# Altium footprint library LabLib.PcbLib: 145 footprints (part 6 of 10)
Each footprint in its own frame and in the unit in brackets; x right, y up, seen from the top. Pads: shape width x height; smd on the part's side, far side on the other; paste and mask are expansions set on the pad; w line width, h text height; cw(c..) or ccw(c..) is an arc to the next point about the centre after c.
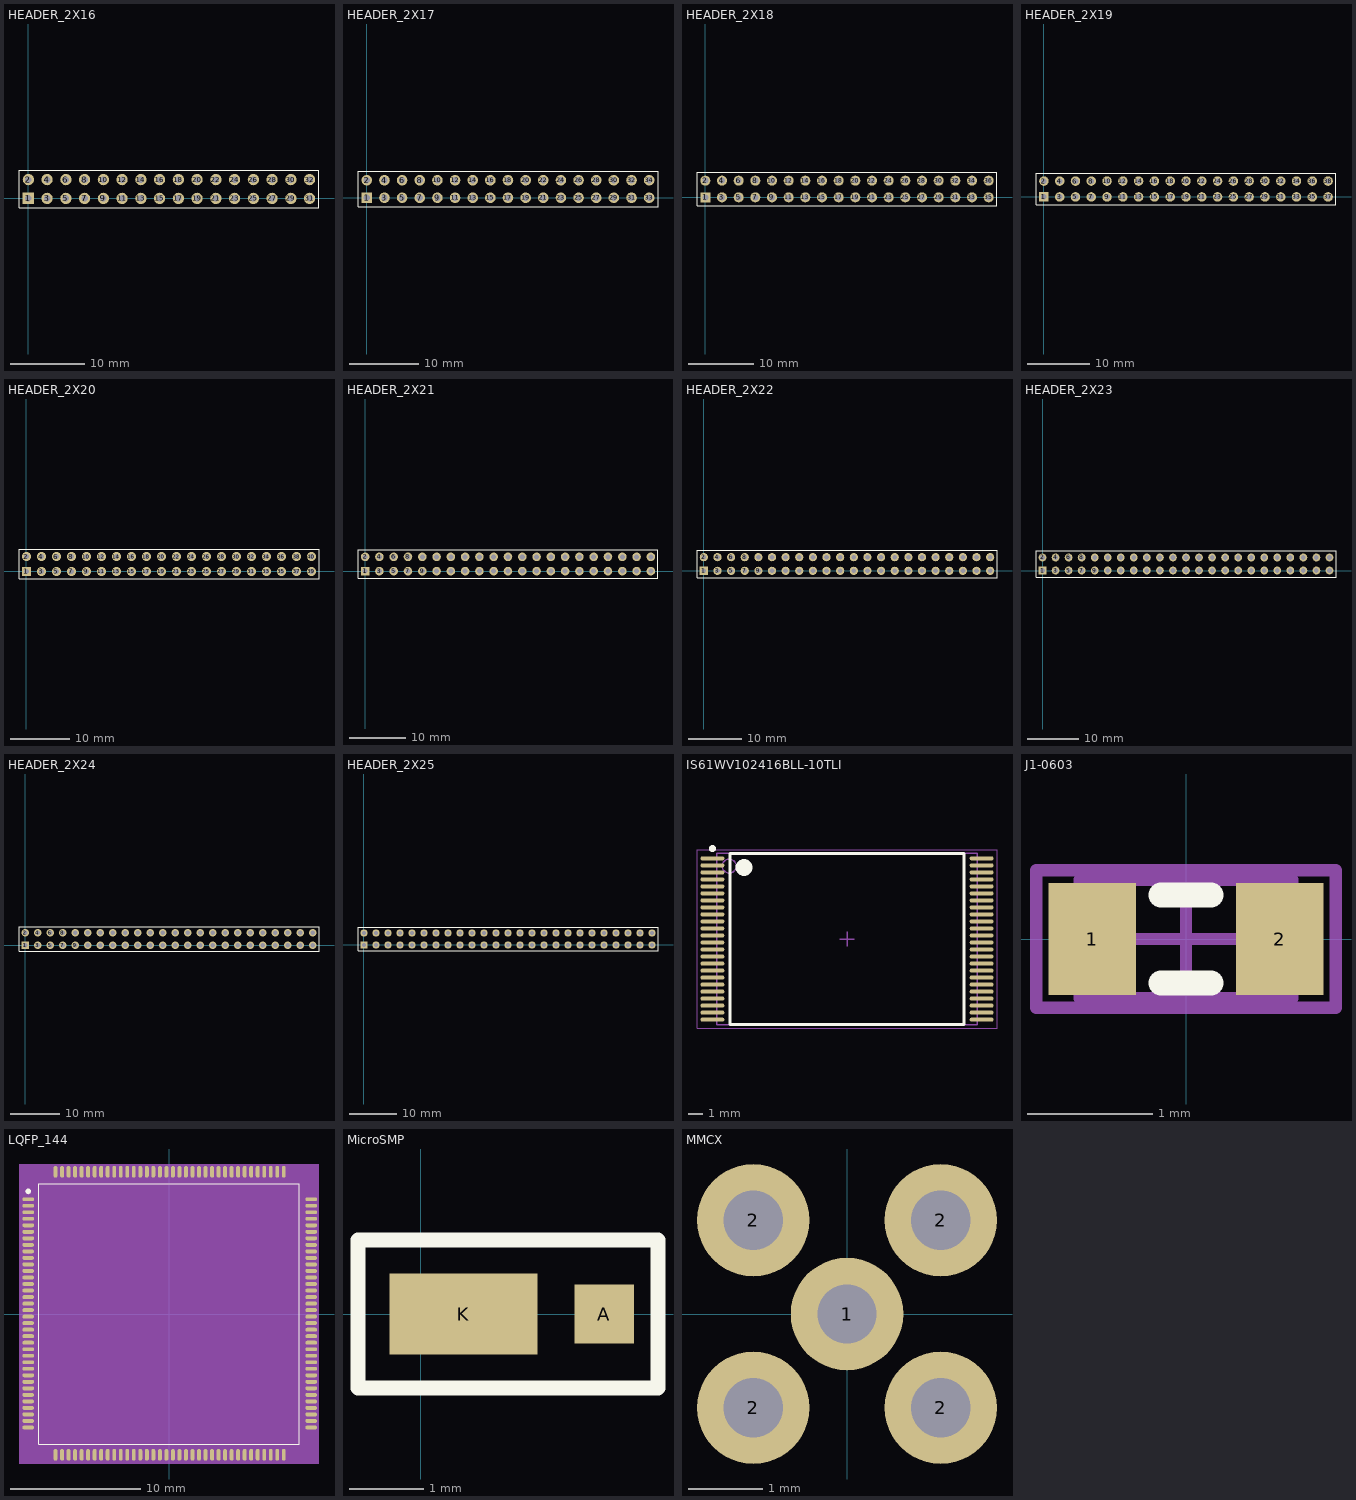
[diagram p5: the footprints below, top view; thin cyan lines are the x and y axes]

## HEADER_2X16 [mil]
pads (32):
  rect 60x60 hole 35.43: 1(0,0)
  round 60 hole 35.43: 2(0,100) 3(100,0) 4(100,100) 5(200,0) 6(200,100) 7(300,0) 8(300,100) 9(400,0) 10(400,100) 11(500,0) 12(500,100) 13(600,0) 14(600,100) 15(700,0) 16(700,100) 17(800,0) 18(800,100) 19(900,0) 20(900,100) 21(1000,0) 22(1000,100) 23(1100,0) 24(1100,100) 25(1200,0) 26(1200,100) 27(1300,0) 28(1300,100) 29(1400,0) 30(1400,100) 31(1500,0) 32(1500,100)
Top Overlay:
  lines w3.97: -50,-50 -50,150 1550.1,150 1550.1,-50 -50,-50

## HEADER_2X17 [mil]
pads (34):
  rect 60x60 hole 35.43: 1(0,0)
  round 60 hole 35.43: 2(0,100) 3(100,0) 4(100,100) 5(200,0) 6(200,100) 7(300,0) 8(300,100) 9(400,0) 10(400,100) 11(500,0) 12(500,100) 13(600,0) 14(600,100) 15(700,0) 16(700,100) 17(800,0) 18(800,100) 19(900,0) 20(900,100) 21(1000,0) 22(1000,100) 23(1100,0) 24(1100,100) 25(1200,0) 26(1200,100) 27(1300,0) 28(1300,100) 29(1400,0) 30(1400,100) 31(1500,0) 32(1500,100) 33(1600,0) 34(1600,100)
Top Overlay:
  lines w3.97: -50,-50 -50,150 1650.1,150 1650.1,-50 -50,-50

## HEADER_2X18 [mil]
pads (36):
  rect 60x60 hole 35.43: 1(0,0)
  round 60 hole 35.43: 2(0,100) 3(100,0) 4(100,100) 5(200,0) 6(200,100) 7(300,0) 8(300,100) 9(400,0) 10(400,100) 11(500,0) 12(500,100) 13(600,0) 14(600,100) 15(700,0) 16(700,100) 17(800,0) 18(800,100) 19(900,0) 20(900,100) 21(1000,0) 22(1000,100) 23(1100,0) 24(1100,100) 25(1200,0) 26(1200,100) 27(1300,0) 28(1300,100) 29(1400,0) 30(1400,100) 31(1500,0) 32(1500,100) 33(1600,0) 34(1600,100) 35(1700,0) 36(1700,100)
Top Overlay:
  lines w3.97: -50,-50 1750.1,-50 1750.1,150 -50,150 -50,-50

## HEADER_2X19 [mil]
pads (38):
  rect 60x60 hole 35.43: 1(0,0)
  round 60 hole 35.43: 2(0,100) 3(100,0) 4(100,100) 5(200,0) 6(200,100) 7(300,0) 8(300,100) 9(400,0) 10(400,100) 11(500,0) 12(500,100) 13(600,0) 14(600,100) 15(700,0) 16(700,100) 17(800,0) 18(800,100) 19(900,0) 20(900,100) 21(1000,0) 22(1000,100) 23(1100,0) 24(1100,100) 25(1200,0) 26(1200,100) 27(1300,0) 28(1300,100) 29(1400,0) 30(1400,100) 31(1500,0) 32(1500,100) 33(1600,0) 34(1600,100) 35(1700,0) 36(1700,100) 37(1800.2,0) 38(1800.2,100)
Top Overlay:
  lines w3.97: -50,-50 -50,150 1850.1,150 1850.1,-50 -50,-50

## HEADER_2X20 [mil]
pads (40):
  rect 60x60 hole 35.43: 1(0,0)
  round 60 hole 35.43: 2(0,100) 3(100,0) 4(100,100) 5(200,0) 6(200,100) 7(300,0) 8(300,100) 9(400,0) 10(400,100) 11(500,0) 12(500,100) 13(600,0) 14(600,100) 15(700,0) 16(700,100) 17(800,0) 18(800,100) 19(900,0) 20(900,100) 21(1000,0) 22(1000,100) 23(1100,0) 24(1100,100) 25(1200,0) 26(1200,100) 27(1300,0) 28(1300,100) 29(1400,0) 30(1400,100) 31(1500,0) 32(1500,100) 33(1600,0) 34(1600,100) 35(1700,0) 36(1700,100) 37(1800.2,0) 38(1800.2,100) 39(1900,0) 40(1900,100)
Top Overlay:
  lines w3.97: -50,-50 -50,150 1950.1,150 1950.1,-50 -50,-50

## HEADER_2X21 [mil]
pads (42):
  rect 60x60 hole 35.43: 1(0,0)
  round 60 hole 35.43: 2(0,100) 3(100,0) 4(100,100) 5(200,0) 6(200,100) 7(300,0) 8(300,100) 9(400,0) 10(400,100) 11(500,0) 12(500,100) 13(600,0) 14(600,100) 15(700,0) 16(700,100) 17(800,0) 18(800,100) 19(900,0) 20(900,100) 21(1000,0) 22(1000,100) 23(1100,0) 24(1100,100) 25(1200,0) 26(1200,100) 27(1300,0) 28(1300,100) 29(1400,0) 30(1400,100) 31(1500,0) 32(1500,100) 33(1600,0) 34(1600,100) 35(1700,0) 36(1700,100) 37(1800.2,0) 38(1800.2,100) 39(1900,0) 40(1900,100) 41(2000,0) 42(2000,100)
Top Overlay:
  lines w3.97: -50,-50 2050.1,-50 2050.1,150 -50,150 -50,-50

## HEADER_2X22 [mil]
pads (44):
  rect 60x60 hole 35.43: 1(0,0)
  round 60 hole 35.43: 2(0,100) 3(100,0) 4(100,100) 5(200,0) 6(200,100) 7(300,0) 8(300,100) 9(400,0) 10(400,100) 11(500,0) 12(500,100) 13(600,0) 14(600,100) 15(700,0) 16(700,100) 17(800,0) 18(800,100) 19(900,0) 20(900,100) 21(1000,0) 22(1000,100) 23(1100,0) 24(1100,100) 25(1200,0) 26(1200,100) 27(1300,0) 28(1300,100) 29(1400,0) 30(1400,100) 31(1500,0) 32(1500,100) 33(1600,0) 34(1600,100) 35(1700,0) 36(1700,100) 37(1800.2,0) 38(1800.2,100) 39(1900,0) 40(1900,100) 41(2000,0) 42(2000,100) 43(2100,0) 44(2100,100)
Top Overlay:
  lines w3.97: -50,-50 2150.1,-50 2150.1,150 -50,150 -50,-50

## HEADER_2X23 [mil]
pads (46):
  rect 60x60 hole 35.43: 1(0,0)
  round 60 hole 35.43: 2(0,100) 3(100,0) 4(100,100) 5(200,0) 6(200,100) 7(300,0) 8(300,100) 9(400,0) 10(400,100) 11(500,0) 12(500,100) 13(600,0) 14(600,100) 15(700,0) 16(700,100) 17(800,0) 18(800,100) 19(900,0) 20(900,100) 21(1000,0) 22(1000,100) 23(1100,0) 24(1100,100) 25(1200,0) 26(1200,100) 27(1300,0) 28(1300,100) 29(1400,0) 30(1400,100) 31(1500,0) 32(1500,100) 33(1600,0) 34(1600,100) 35(1700,0) 36(1700,100) 37(1800.2,0) 38(1800.2,100) 39(1900,0) 40(1900,100) 41(2000,0) 42(2000,100) 43(2100,0) 44(2100,100) 45(2200,0) 46(2200,100)
Top Overlay:
  lines w3.97: -50,-50 2250.1,-50 2250.1,150 -50,150 -50,-50

## HEADER_2X24 [mil]
pads (48):
  rect 60x60 hole 35.43: 1(0,0)
  round 60 hole 35.43: 2(0,100) 3(100,0) 4(100,100) 5(200,0) 6(200,100) 7(300,0) 8(300,100) 9(400,0) 10(400,100) 11(500,0) 12(500,100) 13(600,0) 14(600,100) 15(700,0) 16(700,100) 17(800,0) 18(800,100) 19(900,0) 20(900,100) 21(1000,0) 22(1000,100) 23(1100,0) 24(1100,100) 25(1200,0) 26(1200,100) 27(1300,0) 28(1300,100) 29(1400,0) 30(1400,100) 31(1500,0) 32(1500,100) 33(1600,0) 34(1600,100) 35(1700,0) 36(1700,100) 37(1800.2,0) 38(1800.2,100) 39(1900,0) 40(1900,100) 41(2000,0) 42(2000,100) 43(2100,0) 44(2100,100) 45(2200,0) 46(2200,100) 47(2300,0) 48(2300,100)
Top Overlay:
  lines w3.97: -50,-50 -50,150 2350.1,150 2350.1,-50 -50,-50

## HEADER_2X25 [mil]
pads (50):
  rect 60x60 hole 35.43: 1(0,0)
  round 60 hole 35.43: 2(0,100) 3(100,0) 4(100,100) 5(200,0) 6(200,100) 7(300,0) 8(300,100) 9(400,0) 10(400,100) 11(500,0) 12(500,100) 13(600,0) 14(600,100) 15(700,0) 16(700,100) 17(800,0) 18(800,100) 19(900,0) 20(900,100) 21(1000,0) 22(1000,100) 23(1100,0) 24(1100,100) 25(1200,0) 26(1200,100) 27(1300,0) 28(1300,100) 29(1400,0) 30(1400,100) 31(1500,0) 32(1500,100) 33(1600,0) 34(1600,100) 35(1700,0) 36(1700,100) 37(1800.2,0) 38(1800.2,100) 39(1900,0) 40(1900,100) 41(2000,0) 42(2000,100) 43(2100,0) 44(2100,100) 45(2200,0) 46(2200,100) 47(2300,0) 48(2300,100) 49(2400,0) 50(2400,100)
Top Overlay:
  lines w3.97: -50,-50 -50,150 2450.1,150 2450.1,-50 -50,-50

## IS61WV102416BLL-10TLI [mm] "SOP127P600-8N Medium density"
height 1.2
pads (48):
  oval 1.7x0.3 smd: 1(-57.6,34.5) 2(-57.6,34) 3(-57.6,33.5) 4(-57.6,33) 5(-57.6,32.5) 6(-57.6,32) 7(-57.6,31.5) 8(-57.6,31) 9(-57.6,30.5) 10(-57.6,30) 11(-57.6,29.5) 12(-57.6,29) 13(-57.6,28.5) 14(-57.6,28) 15(-57.6,27.5) 16(-57.6,27) 17(-57.6,26.5) 18(-57.6,26) 19(-57.6,25.5) 20(-57.6,25) 21(-57.6,24.5) 22(-57.6,24) 23(-57.6,23.5) 24(-57.6,23) 25(-38.4,23) 26(-38.4,23.5) 27(-38.4,24) 28(-38.4,24.5) 29(-38.4,25) 30(-38.4,25.5) 31(-38.4,26) 32(-38.4,26.5) 33(-38.4,27) 34(-38.4,27.5) 35(-38.4,28) 36(-38.4,28.5) 37(-38.4,29) 38(-38.4,29.5) 39(-38.4,30) 40(-38.4,30.5) 41(-38.4,31) 42(-38.4,31.5) 43(-38.4,32) 44(-38.4,32.5) 45(-38.4,33) 46(-38.4,33.5) 47(-38.4,34) 48(-38.4,34.5)
Top Overlay:
  circle w0.6: c-55.35,33.85 r0.3
  circle w0.25: c-57.6,35.2 r0.125
  lines w0.2: -56.35,22.65 -39.65,22.65 -39.65,34.85 -56.35,34.85 -56.35,22.65
Mechanical 13:
  circle w0.1: c-56.4,33.95 r0.5
  lines w0.1: -57.3,22.65 -38.7,22.65 -38.7,34.85 -57.3,34.85 -57.3,22.65
Mechanical 15:
  lines w0.05: -58.7,22.4 -37.3,22.4 -37.3,35.1 -58.7,35.1 -58.7,22.4
  lines w0.1: -48.5,28.75 -47.5,28.75 ; -48,28.25 -48,29.25
3D body: height 1.2, standoff 0.05, extent -57.3,22.65 -38.7,34.85

## J1-0603 [mm]
pads (2):
  rect 0.7x0.9 smd: 1(-0.75,0) 2(0.75,0)
Top Overlay:
  lines w0.2: -0.2,-0.35 0.2,-0.35 ; -0.2,0.35 0.2,0.35
Mechanical 13:
  lines w0.1: -0.85,-0.475 -0.85,0.475 0.85,0.475 0.85,-0.475 -0.85,-0.475
Mechanical 15:
  lines w0.1: -0.475,0 0.475,0 ; 0,-0.475 0,0.475 ; -1.2,-0.55 -1.2,0.55 1.2,0.55 1.2,-0.55 -1.2,-0.55
3D body: height 0.9, standoff 0, extent -0.85,-0.475 0.85,0.475

## LED0805green [mm]

## LQFP_144 [mm] "LQFP_144"
pads (144):
  oval 0.9x0.3 smd: 1(-10.8,8.8) 2(-10.8,8.3) 3(-10.8,7.8) 4(-10.8,7.3) 5(-10.8,6.8) 6(-10.8,6.3) 7(-10.8,5.8) 8(-10.8,5.3) 9(-10.8,4.8) 10(-10.8,4.3) 11(-10.8,3.8) 12(-10.8,3.3) 13(-10.8,2.8) 14(-10.8,2.3) 15(-10.8,1.8) 16(-10.8,1.3) 17(-10.8,0.8) 18(-10.8,0.3) 19(-10.8,-0.2) 20(-10.8,-0.7) 21(-10.8,-1.2) 22(-10.8,-1.7) 23(-10.8,-2.2) 24(-10.8,-2.7) 25(-10.8,-3.2) 26(-10.8,-3.7) 27(-10.8,-4.2) 28(-10.8,-4.7) 29(-10.8,-5.2) 30(-10.8,-5.7) 31(-10.8,-6.2) 32(-10.8,-6.7) 33(-10.8,-7.2) 34(-10.8,-7.7) 35(-10.8,-8.2) 36(-10.8,-8.7) 73(10.9,-8.7) 74(10.9,-8.2) 75(10.9,-7.7) 76(10.9,-7.2) 77(10.9,-6.7) 78(10.9,-6.2) 79(10.9,-5.7) 80(10.9,-5.2) 81(10.9,-4.7) 82(10.9,-4.2) 83(10.9,-3.7) 84(10.9,-3.2) 85(10.9,-2.7) 86(10.9,-2.2) 87(10.9,-1.7) 88(10.9,-1.2) 89(10.9,-0.7) 90(10.9,-0.2) 91(10.9,0.3) 92(10.9,0.8) 93(10.9,1.3) 94(10.9,1.8) 95(10.9,2.3) 96(10.9,2.8) 97(10.9,3.3) 98(10.9,3.8) 99(10.9,4.3) 100(10.9,4.8) 101(10.9,5.3) 102(10.9,5.8) 103(10.9,6.3) 104(10.9,6.8) 105(10.9,7.3) 106(10.9,7.8) 107(10.9,8.3) 108(10.9,8.8)
  oval 0.3x0.9 smd: 37(-8.7,-10.8) 38(-8.2,-10.8) 39(-7.7,-10.8) 40(-7.2,-10.8) 41(-6.7,-10.8) 42(-6.2,-10.8) 43(-5.7,-10.8) 44(-5.2,-10.8) 45(-4.7,-10.8) 46(-4.2,-10.8) 47(-3.7,-10.8) 48(-3.2,-10.8) 49(-2.7,-10.8) 50(-2.2,-10.8) 51(-1.7,-10.8) 52(-1.2,-10.8) 53(-0.7,-10.8) 54(-0.2,-10.8) 55(0.3,-10.8) 56(0.8,-10.8) 57(1.3,-10.8) 58(1.8,-10.8) 59(2.3,-10.8) 60(2.8,-10.8) 61(3.3,-10.8) 62(3.8,-10.8) 63(4.3,-10.8) 64(4.8,-10.8) 65(5.3,-10.8) 66(5.8,-10.8) 67(6.3,-10.8) 68(6.8,-10.8) 69(7.3,-10.8) 70(7.8,-10.8) 71(8.3,-10.8) 72(8.8,-10.8) 109(8.8,10.9) 110(8.3,10.9) 111(7.8,10.9) 112(7.3,10.9) 113(6.8,10.9) 114(6.3,10.9) 115(5.8,10.9) 116(5.3,10.9) 117(4.8,10.9) 118(4.3,10.9) 119(3.8,10.9) 120(3.3,10.9) 121(2.8,10.9) 122(2.3,10.9) 123(1.8,10.9) 124(1.3,10.9) 125(0.8,10.9) 126(0.3,10.9) 127(-0.2,10.9) 128(-0.7,10.9) 129(-1.2,10.9) 130(-1.7,10.9) 131(-2.2,10.9) 132(-2.7,10.9) 133(-3.2,10.9) 134(-3.7,10.9) 135(-4.2,10.9) 136(-4.7,10.9) 137(-5.2,10.9) 138(-5.7,10.9) 139(-6.2,10.9) 140(-6.7,10.9) 141(-7.2,10.9) 142(-7.7,10.9) 143(-8.2,10.9) 144(-8.7,10.9)
Top Overlay:
  pour cut-out: -10.596,9.4 -10.612,9.322 -10.656,9.256 -10.722,9.212 -10.8,9.196 -10.878,9.212 -10.944,9.256 -10.988,9.322 -11.004,9.4 -10.988,9.478 -10.944,9.544 -10.878,9.588 -10.8,9.604 -10.722,9.588 -10.656,9.544 -10.612,9.478
  lines w0.025: -10,-10 -10,10 10,10 10,-10 -10,-10
Mechanical 4:
  lines w0.025: -10,-1.327 -10,-10 -9.932,-10 ; -10,-0.659 -10,3.37 ; -10,3.85 -10,4.388 ; -10,5.432 -10,7.484 ; -10,7.936 -10,10 10,10 10,5.402 ; -9.228,-10 10,-10 10,4.618
Mechanical 8:
  text "15" at -11.2,1.8 h0.5
  text "100" at 10.3,4.8 h0.5
  text "116" at 4.7,10.9 h0.5
  text "113" at 6.2,10.9 h0.5
  text "112" at 6.7,10.9 h0.5
  text "27" at -11.2,-4.2 h0.5
  text "25" at -11.2,-3.2 h0.5
  text "13" at -11.2,2.8 h0.5
  text "89" at 10.5,-0.7 h0.5
  text "97" at 10.5,3.3 h0.5
  text "93" at 10.5,1.3 h0.5
  text "38" at -8.6,-10.8 h0.5
  text "44" at -5.6,-10.8 h0.5
  text "45" at -5.1,-10.8 h0.5
  text "51" at -2.1,-10.8 h0.5
  text "52" at -1.6,-10.8 h0.5
  text "36" at -11.2,-8.7 h0.5
  text "88" at 10.5,-1.2 h0.5
  text "39" at -8.1,-10.8 h0.5
  text "41" at -7.1,-10.8 h0.5
  text "43" at -6.1,-10.8 h0.5
  text "75" at 10.5,-7.7 h0.5
  text "77" at 10.5,-6.7 h0.5
  text "87" at 10.5,-1.7 h0.5
  text "42" at -6.6,-10.8 h0.5
  text "46" at -4.6,-10.8 h0.5
  text "76" at 10.5,-7.2 h0.5
  text "57" at 0.9,-10.8 h0.5
  text "56" at 0.4,-10.8 h0.5
  text "67" at 5.9,-10.8 h0.5
  text "33" at -11.2,-7.2 h0.5
  text "110" at 7.7,10.9 h0.5
  text "66" at 5.4,-10.8 h0.5
  text "122" at 1.7,10.9 h0.5
  text "14" at -11.2,2.3 h0.5
  text "136" at -5.3,10.9 h0.5
  text "16" at -11.2,1.3 h0.5
  text "30" at -11.2,-5.7 h0.5
  text "99" at 10.5,4.3 h0.5
  text "28" at -11.2,-4.7 h0.5
  text "69" at 6.9,-10.8 h0.5
  text "6" at -11,6.3 h0.5
  text "35" at -11.2,-8.2 h0.5
  text "37" at -9.1,-10.8 h0.5
  text "3" at -11,7.8 h0.5
  text "83" at 10.5,-3.7 h0.5
  text "63" at 3.9,-10.8 h0.5
  text "124" at 0.7,10.9 h0.5
  text "123" at 1.2,10.9 h0.5
  text "18" at -11.2,0.3 h0.5
  text "31" at -11.2,-6.2 h0.5
  text "11" at -11.2,3.8 h0.5
  text "23" at -11.2,-2.2 h0.5
  text "132" at -3.3,10.9 h0.5
  text "98" at 10.5,3.8 h0.5
  text "111" at 7.2,10.9 h0.5
  text "34" at -11.2,-7.7 h0.5
  text "62" at 3.4,-10.8 h0.5
  text "60" at 2.4,-10.8 h0.5
  text "104" at 10.3,6.8 h0.5
  text "135" at -4.8,10.9 h0.5
  text "24" at -11.2,-2.7 h0.5
  text "85" at 10.5,-2.7 h0.5
  text "91" at 10.5,0.3 h0.5
  text "26" at -11.2,-3.7 h0.5
  text "8" at -11,5.3 h0.5
  text "134" at -4.3,10.9 h0.5
  text "133" at -3.8,10.9 h0.5
  text "68" at 6.4,-10.8 h0.5
  text "118" at 3.7,10.9 h0.5
  text "84" at 10.5,-3.2 h0.5
  text "96" at 10.5,2.8 h0.5
  text "120" at 2.7,10.9 h0.5
  text "17" at -11.2,0.8 h0.5
  text "108" at 10.3,8.8 h0.5
  text "79" at 10.5,-5.7 h0.5
  text "137" at -5.8,10.9 h0.5
  text "121" at 2.2,10.9 h0.5
  text "9" at -11,4.8 h0.5
  text "129" at -1.8,10.9 h0.5
  text "94" at 10.5,1.8 h0.5
  text "115" at 5.2,10.9 h0.5
  text "107" at 10.3,8.3 h0.5
  text "1" at -11,8.8 h0.5
  text "72" at 8.4,-10.8 h0.5
  text "138" at -6.3,10.9 h0.5
  text "71" at 7.9,-10.8 h0.5
  text "12" at -11.2,3.3 h0.5
  text "73" at 10.5,-8.7 h0.5
  text "109" at 8.2,10.9 h0.5
  text "139" at -6.8,10.9 h0.5
  text "141" at -7.8,10.9 h0.5
  text "74" at 10.5,-8.2 h0.5
  text "2" at -11,8.3 h0.5
  text "10" at -11.2,4.3 h0.5
  text "21" at -11.2,-1.2 h0.5
  text "48" at -3.6,-10.8 h0.5
  text "64" at 4.4,-10.8 h0.5
  text "81" at 10.5,-4.7 h0.5
  text "130" at -2.3,10.9 h0.5
  text "142" at -8.3,10.9 h0.5
  text "143" at -8.8,10.9 h0.5
  text "103" at 10.3,6.3 h0.5
  text "101" at 10.3,5.3 h0.5
  text "119" at 3.2,10.9 h0.5
  text "128" at -1.3,10.9 h0.5
  text "5" at -11,6.8 h0.5
  text "78" at 10.5,-6.2 h0.5
  text "19" at -11.2,-0.2 h0.5
  text "114" at 5.7,10.9 h0.5
  text "29" at -11.2,-5.2 h0.5
  text "70" at 7.4,-10.8 h0.5
  text "125" at 0.2,10.9 h0.5
  text "127" at -0.8,10.9 h0.5
  text "105" at 10.3,7.3 h0.5
  text "55" at -0.1,-10.8 h0.5
  text "59" at 1.9,-10.8 h0.5
  text "58" at 1.4,-10.8 h0.5
  text "22" at -11.2,-1.7 h0.5
  text "80" at 10.5,-5.2 h0.5
  text "40" at -7.6,-10.8 h0.5
  text "90" at 10.5,-0.2 h0.5
  text "53" at -1.1,-10.8 h0.5
  text "32" at -11.2,-6.7 h0.5
  text "86" at 10.5,-2.2 h0.5
  text "92" at 10.5,0.8 h0.5
  text "95" at 10.5,2.3 h0.5
  text "61" at 2.9,-10.8 h0.5
  text "126" at -0.3,10.9 h0.5
  text "106" at 10.3,7.8 h0.5
  text "50" at -2.6,-10.8 h0.5
  text "54" at -0.6,-10.8 h0.5
  text "49" at -3.1,-10.8 h0.5
  text "131" at -2.8,10.9 h0.5
  text "117" at 4.2,10.9 h0.5
  text "102" at 10.3,5.8 h0.5
  text "82" at 10.5,-4.2 h0.5
  text "4" at -11,7.3 h0.5
  text "7" at -11,5.8 h0.5
  text "140" at -7.3,10.9 h0.5
  text "144" at -9.3,10.9 h0.5
  text "20" at -11.2,-0.7 h0.5
  text "47" at -4.1,-10.8 h0.5
  text "65" at 4.9,-10.8 h0.5
Mechanical 14:
  lines w0.025: -10,-10 -10,10 10,10 10,-10 -10,-10
Mechanical 15:
  region: -11.5,-11.5 -11.5,11.5 11.5,11.5 11.5,-11.5
Mechanical 16:
  pour cut-out: -11.5,-11.5 -11.5,11.5 11.5,11.5 11.5,-11.5

## MicroSMP [mm]
height 0.73
pads (2):
  rect 0.8x0.8 smd: A(2.475,0)
  rect 2x1.1 smd: K(0.575,0)
Top Overlay:
  lines w0.2: -0.85,-1 3.2,-1 3.2,1 -0.85,1 -0.85,0 -0.85,-1

## MMCX [mil] "Right angled PCB jack with 3D boddy"
pads (5):
  round 60 hole 31.5: 1(0,0) 2(-50,-50) 2(-50,50) 2(50,-50) 2(50,50)
3D body "HUBER+SUHNER_85_MMCX-50-0-1_3dModel.stp": height 151.26, standoff -116.54, extent -68.3,-67.59 189.38,69.58